# Altium schematic symbol library MOD-ESP32-Wrover-IE-N16R8.SchLib: 1 symbol
Pins are listed as number, name and electrical type; pins without a type are passive.

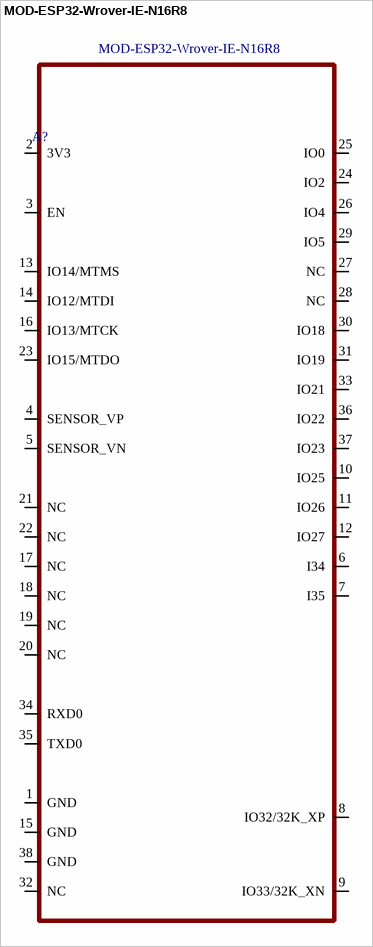
[diagram p0: symbol MOD-ESP32-Wrover-IE-N16R8]

## MOD-ESP32-Wrover-IE-N16R8
designator A?
pins: 1 GND, 2 3V3, 3 EN, 4 SENSOR_VP, 5 SENSOR_VN, 6 I34, 7 I35, 8 IO32/32K_XP, 9 IO33/32K_XN, 10 IO25, 11 IO26, 12 IO27, 13 IO14/MTMS, 14 IO12/MTDI, 15 GND, 16 IO13/MTCK, 17 NC, 18 NC, 19 NC, 20 NC, 21 NC, 22 NC, 23 IO15/MTDO, 24 IO2, 25 IO0, 26 IO4, 27 NC, 28 NC, 29 IO5, 30 IO18, 31 IO19, 32 NC, 33 IO21, 34 RXD0, 35 TXD0, 36 IO22, 37 IO23, 38 GND